# EAGLE library part AD8544 (library my_devices)
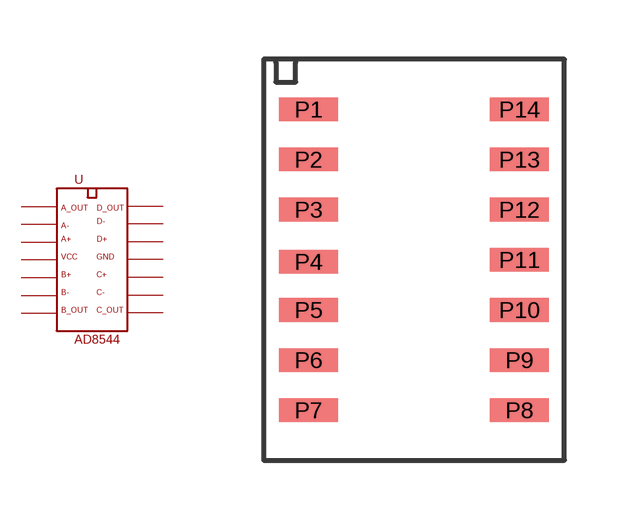
[diagram p12: symbol with the pads of SO-14; footprint SO-14]

Designator prefix U

## AD8544SO-14  [SO-14]
P1  A_OUT
P2  A-
P3  A+
P4  VCC  pwr
P5  B+
P6  B-
P7  B_OUT
P8  C_OUT
P9  C-
P10  C+
P11  GND  pwr
P12  D+
P13  D-
P14  D_OUT

## Footprint SO-14 (pad centres in mm)
smd 1.5 x 0.6: P1 -2.67,3.81; P2 -2.67,2.54; P3 -2.67,1.27; P4 -2.67,-0.05; P5 -2.67,-1.27; P6 -2.67,-2.54; P7 -2.67,-3.81; P8 2.67,-3.81; P9 2.67,-2.54; P10 2.67,-1.27; P11 2.67,0; P12 2.67,1.27; P13 2.67,2.54; P14 2.67,3.81